# EAGLE library part 75869-08 (library con-fci-quickie)
HEADER
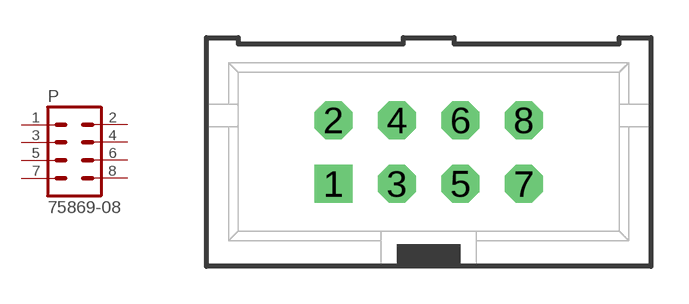
[diagram p1: symbol with the pads of 75869-08; footprint 75869-08]

Designator prefix P

## 75869-08  [75869-08]
1  1  pas
2  2  pas
3  3  pas
4  4  pas
5  5  pas
6  6  pas
7  7  pas
8  8  pas

## Footprint 75869-08 (pad centres in mm)
HEADER
drill 1.016 square: 1 -3.81,-1.27
drill 1.016 octagon: 2 -3.81,1.27; 3 -1.27,-1.27; 4 -1.27,1.27; 5 1.27,-1.27; 6 1.27,1.27; 7 3.81,-1.27; 8 3.81,1.27